# Altium footprint library CAT24C256.PcbLib: 1 footprints
Each footprint in its own frame and in the unit in brackets; x right, y up, seen from the top. Pads: shape width x height; smd on the part's side, far side on the other; paste and mask are expansions set on the pad; w line width, h text height; cw(c..) or ccw(c..) is an arc to the next point about the centre after c.
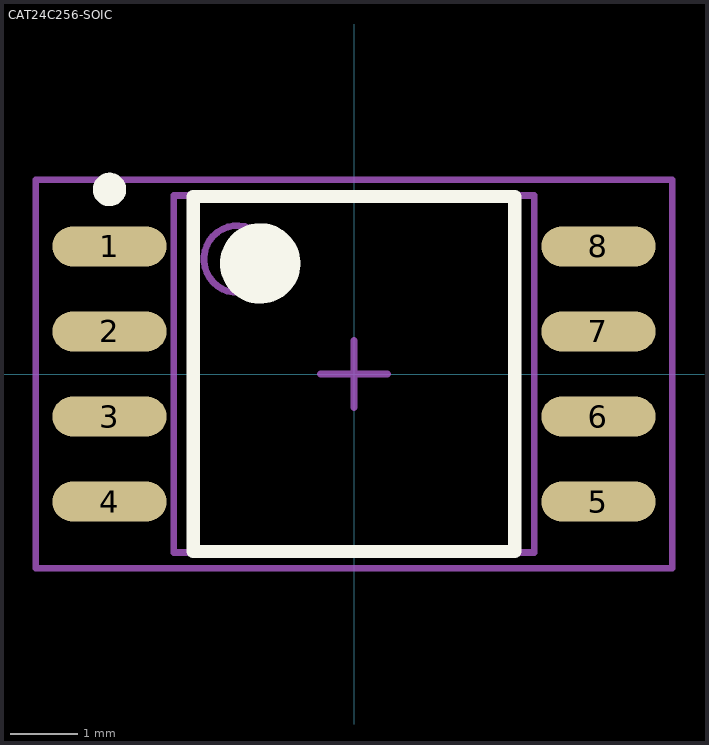
[diagram p0: the footprint, top view; thin cyan lines are the x and y axes]

## CAT24C256-SOIC [mm] "CAT24C256 256 kb I2  C CMOS Serial  EEPROM"
height 2.03
pads (8):
  oval 1.7x0.6 smd: 1(-3.65,1.905) 2(-3.65,0.635) 3(-3.65,-0.635) 4(-3.65,-1.905) 5(3.65,-1.905) 6(3.65,-0.635) 7(3.65,0.635) 8(3.65,1.905)
Top Overlay:
  circle w0.6: c-1.4,1.65 r0.3
  circle w0.25: c-3.65,2.755 r0.125
  lines w0.2: -2.4,-2.65 2.4,-2.65 2.4,2.65 -2.4,2.65 -2.4,-2.65
Mechanical 13:
  circle w0.1: c-1.74,1.715 r0.5
  lines w0.1: -2.69,-2.665 2.69,-2.665 2.69,2.665 -2.69,2.665 -2.69,-2.665
Mechanical 15:
  lines w0.1: -0.5,0 0.5,0 ; 0,-0.5 0,0.5 ; -4.75,-2.9 4.75,-2.9 4.75,2.9 -4.75,2.9 -4.75,-2.9
3D body: height 2.03, standoff 0.05, extent -2.69,-2.665 2.69,2.665